# Altium footprint library PowerBank-PCBLIB.PcbLib: 22 footprints (part 2 of 2)
Each footprint in its own frame and in the unit in brackets; x right, y up, seen from the top. Pads: shape width x height; smd on the part's side, far side on the other; paste and mask are expansions set on the pad; w line width, h text height; cw(c..) or ccw(c..) is an arc to the next point about the centre after c.
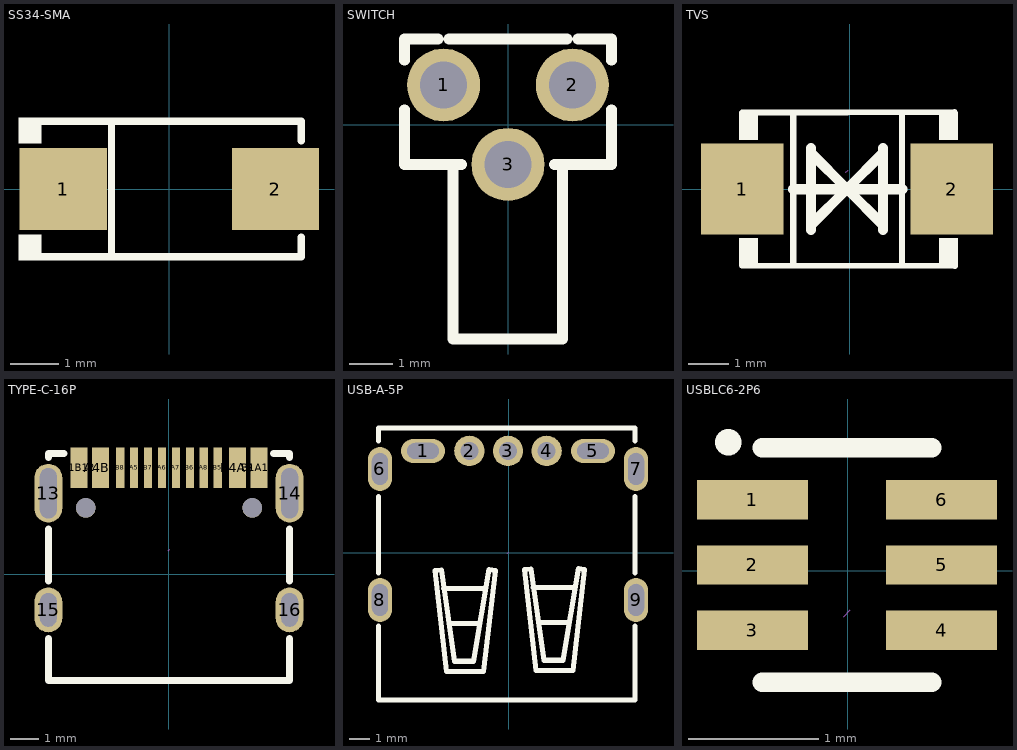
[diagram p1: the footprints below, top view; thin cyan lines are the x and y axes]

## SS34-SMA [mm] "SMA"
pads (2):
  rect 1.8x1.7 smd: 1(-2.192,0) 2(2.192,0)
Top Overlay:
  region: -2.65,-1.477 -2.65,-0.949 -3.107,-0.949 -3.107,-1.477
  region: -2.65,1.477 -2.65,0.949 -3.107,0.949 -3.107,1.477
  lines w0.152: -2.726,-1.401 2.726,-1.401 2.726,-1 ; -2.726,1.401 2.726,1.401 2.726,1 ; -1.197,-1.401 -1.197,1.401
Mechanical 15:
  region: 2.153,-0.663 2.153,0.663 1.954,0.663 1.954,-0.663
  region: 2.451,-0.099 2.451,0.099 1.656,0.099 1.656,-0.099
  region: -2.451,-0.099 -2.451,0.099 -1.656,0.099 -1.656,-0.099

## SWITCH [mm]
pads (3):
  round 1.7 hole 1.1: 1(-1.5,0.925) 2(1.5,0.925) 3(0,-0.925)
Top Overlay:
  lines w0.254: -2.413,0.348 -2.413,-0.925 -1.081,-0.925 ; -2.413,1.502 -2.413,1.996 -1.63,1.996 ; -1.37,1.996 1.37,1.996 ; -1.281,-0.925 -1.281,-4.989 1.27,-4.989 1.27,-0.925 ; 1.081,-0.925 2.413,-0.925 2.413,0.348 ; 1.63,1.996 2.413,1.996 2.413,1.502

## TVS [mm] "SMB(DO-214AA)"
pads (2):
  rect 2.047x2.241 smd: 1(-2.659,0) 2(2.523,0)
Top Overlay:
  region: -2.735,-1.905 -2.735,-1.215 -2.278,-1.215 -2.278,-1.905
  region: -2.735,1.905 -2.735,1.215 -2.278,1.215 -2.278,1.905
  region: 2.218,1.905 2.218,1.215 2.675,1.215 2.675,1.905
  region: 2.218,-1.905 2.218,-1.215 2.675,-1.215 2.675,-1.905
  lines w0.152: -2.667,-1.89 2.599,-1.905 ; -2.659,1.887 2.595,1.905 ; -1.399,-1.886 -1.399,1.886 ; 1.296,-1.886 1.296,1.886
  lines w0.254: -1.399,-0.008 1.296,-0.008 ; -0.068,0 -0.957,0.889 -0.957,1.016 -0.957,-1.016 -0.957,-0.889 -0.068,0 ; -0.068,0 0.821,-0.889 0.821,-1.016 0.821,1.016 0.821,0.889 -0.068,0
Mechanical 15:
  lines w0.003: -0.093,0.413 -0.043,0.464

## TYPE-C-16P [mm] "TYPE-C-16P"
pads (18):
  oval 1x2.099 hole 0.6 slot 1.8 at 90 deg: 13(-4.307,2.903) 14(4.333,2.903)
  oval 1x1.599 hole 0.6 slot 1.2 at 90 deg: 15(-4.307,-1.277) 16(4.333,-1.277)
  rect 0.6x1.45 smd: A1B12(-3.212,3.817) A4B9(-2.437,3.817) B1A12(3.233,3.817) B4A9(2.463,3.817)
  rect 0.3x1.45 smd: A5(-1.238,3.818) A6(-0.237,3.817) A7(0.263,3.817) A8(1.263,3.817) B5(1.763,3.817) B6(0.763,3.817) B7(-0.737,3.817) B8(-1.737,3.817)
  round 0.7 hole 0.7 unplated: ""(-2.967,2.372) ""(2.993,2.372)
Top Overlay:
  lines w0.254: -4.305,-2.309 -4.305,-3.81 4.331,-3.81 4.331,-2.309 ; -4.305,-0.246 -4.305,1.621 ; -4.305,4.184 -4.305,4.318 -3.743,4.318 ; 3.764,4.318 4.331,4.318 4.331,4.184 ; 4.331,-0.246 4.331,1.621
Mechanical 15:
  lines w0.003: -0.012,0.836 0.038,0.886

## USB-A-5P [mm] "USB-A-5PIN大电流"
pads (9):
  oval 2.2x1.2 hole 0.8 slot 1.6 at 0 deg: 1(-4.289,5.08) 5(4.211,5.08)
  round 1.524 hole 0.914: 2(-1.969,5.08) 3(-0.039,5.08) 4(1.891,5.08)
  oval 1.2x2.2 hole 0.8 slot 1.6 at 90 deg: 6(-6.439,4.18) 7(6.361,4.18) 8(-6.439,-2.37) 9(6.361,-2.37)
Top Overlay:
  lines w0.254: -6.516,-3.683 -6.516,-7.366 6.311,-7.366 6.311,-3.683 ; -6.516,-1.016 -6.516,2.794 ; -6.516,5.588 -6.516,6.223 6.311,6.223 6.311,5.588 ; -3.265,-1.803 -1.182,-1.803 ; -2.935,-3.556 -1.487,-3.556 ; 1.206,-1.753 3.288,-1.753 ; 1.536,-3.505 2.984,-3.505 ; 6.311,-1.016 6.311,2.794 ; -3.694,-0.897 -3.112,-5.944 -1.258,-5.944 -0.674,-0.889 -0.979,-0.838 -1.766,-5.436 -2.706,-5.436 -3.361,-0.871 -3.694,-0.897 ; 0.776,-0.846 1.109,-0.82 1.764,-5.385 2.704,-5.385 3.492,-0.787 3.796,-0.838 3.212,-5.893 1.358,-5.893 0.776,-0.846
Mechanical 15:
  lines w0.003: -0.064,-0.036 -0.014,0.015

## USBLC6-2P6 [mm] "ESD PROTECTION"
pads (6):
  rect 0.85x0.3 smd: 1(-0.732,0.544) 2(-0.732,0.044) 3(-0.732,-0.456) 4(0.718,-0.456) 5(0.718,0.044) 6(0.718,0.544)
Top Overlay:
  circle w0.203: c-0.917,0.984 r0
  lines w0.15: -0.657,-0.856 0.643,-0.856 ; -0.657,0.944 0.643,0.944
Mechanical 15:
  lines w0.003: -0.033,-0.352 0.018,-0.301